# Altium schematic symbol library Conn_JST_BM05B-SRSS-TB_LF_SN_eec.SchLib: 1 symbol
Pins are listed as number, name and electrical type; pins without a type are passive.

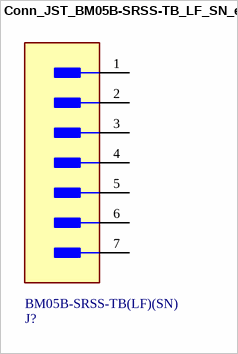
[diagram p0: symbol Conn_JST_BM05B-SRSS-TB_LF_SN_eec]

## Conn_JST_BM05B-SRSS-TB_LF_SN_eec
designator J?  Part Number: BM05B-SRSS-TB(LF)(SN)
CONN 5 Positions Header, Shrouded Connector 0.039" (1.00mm) Surface Mount Tin; Manufacturer: JST; helpURL: https://upverter.com/upn/revision/20df0177789ec3ce/; ComponentLink2Description: Datasheet; Temperature: -25°C to +85°C; Package: HDR5; Supplier 2: Mouser; Price: 0.554088543385; Supplier 1: Digi-Key; ComponentLink1URL: https://upverter.com/upn/revision/20df0177789ec3ce/; Supplier Part Number 1: 455-1791-1-ND; ComponentLink1Description: Upverter; ComponentLink2URL: http://www.jst-mfg.com/product/pdf/eng/eSH.pdf; RoHS: TRUE; Temperature Range High: +85°C; Digikey Description: CONN 5 Positions Header, Shrouded Connector 0.039" (1.00mm) Surface Mount Tin; Digikey Part Number: 455-1791-1-ND; Lead Free: yes; Temperature Range Low: -25°C
footprint JST_BM05B-SRSS-TB_LF_SN_0
pins: 1, 2, 3, 4, 5, 6 MNT 1, 7 MNT 2